# Altium footprint library generic_smd_chip_resistors.PcbLib: 4 footprints
Each footprint in its own frame and in the unit in brackets; x right, y up, seen from the top. Pads: shape width x height; smd on the part's side, far side on the other; paste and mask are expansions set on the pad; w line width, h text height; cw(c..) or ccw(c..) is an arc to the next point about the centre after c.
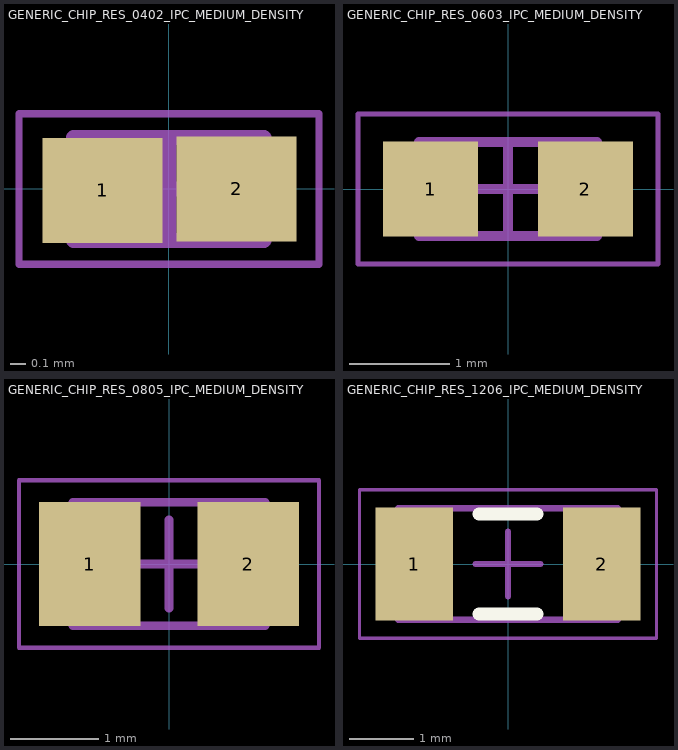
[diagram p0: the footprints below, top view; thin cyan lines are the x and y axes]

## GENERIC_CHIP_RES_0402_IPC_MEDIUM_DENSITY [mm] "Generic Chip Resistor, 2-Leads, Body 1,07x0,56mm, IPC Medium Density"
height 0.38
pads (2):
  rect 0.8x0.7 smd: 1(-0.442,-0.01) 2(0.45,0)
Top Assembly:
  lines w0.1: -0.635,-0.345 0.635,-0.345 0.635,0.345 -0.635,0.345 -0.635,-0.345
Top Courtyard:
  lines w0.05: -1,-0.5 1,-0.5 1,0.5 -1,0.5 -1,-0.5
  lines w0.1: -0.345,0 0.345,0 ; 0,-0.345 0,0.345
3D body "0402.step": height 0.38, standoff 0, extent -0.635,-0.345 0.635,0.345

## GENERIC_CHIP_RES_0603_IPC_MEDIUM_DENSITY [mm] "Generic Chip Resistor, 2-Leads, Body 1,63x0,82mm, IPC Medium Density"
height 0.38
pads (2):
  rect 0.95x0.95 smd: 1(-0.775,0) 2(0.775,0)
Top Assembly:
  lines w0.1: -0.89,-0.47 0.89,-0.47 0.89,0.47 -0.89,0.47 -0.89,-0.47
Top Courtyard:
  lines w0.05: -1.5,-0.75 1.5,-0.75 1.5,0.75 -1.5,0.75 -1.5,-0.75
  lines w0.1: -0.47,0 0.47,0 ; 0,-0.47 0,0.47
3D body "res0603.step": height 0.38, standoff 0, extent -0.89,-0.47 0.89,0.47

## GENERIC_CHIP_RES_0805_IPC_MEDIUM_DENSITY [mm] "Generic Chip Resistor, 2-Leads, Body 2,03x1,27mm, IPC Medium Density"
height 0.38
pads (2):
  rect 1.15x1.4 smd: 1(-0.9,0) 2(0.9,0)
Top Assembly:
  lines w0.1: -1.09,-0.7 -1.09,0.7 1.09,0.7 1.09,-0.7 -1.09,-0.7
Top Courtyard:
  lines w0.05: -1.7,-0.95 -1.7,0.95 1.7,0.95 1.7,-0.95 -1.7,-0.95
  lines w0.1: -0.5,0 0.5,0 ; 0,-0.5 0,0.5
3D body "res0805.step": height 0.38, standoff 0, extent -1.09,-0.7 1.09,0.7

## GENERIC_CHIP_RES_1206_IPC_MEDIUM_DENSITY [mm] "GenericChip Resistor, 2-Leads, Body 3,20x1,60mm, IPC Medium Density"
height 0.38
pads (2):
  rect 1.2x1.75 smd: 1(-1.45,0) 2(1.45,0)
Top Overlay:
  lines w0.2: -0.45,-0.775 0.45,-0.775 ; -0.45,0.775 0.45,0.775
Top Assembly:
  lines w0.1: -1.7,-0.865 1.7,-0.865 1.7,0.865 -1.7,0.865 -1.7,-0.865
Top Courtyard:
  lines w0.05: -2.3,-1.15 2.3,-1.15 2.3,1.15 -2.3,1.15 -2.3,-1.15
  lines w0.1: -0.5,0 0.5,0 ; 0,-0.5 0,0.5
3D body "res1206.step": height 0.38, standoff 0, extent -1.7,-0.865 1.7,0.865